# EAGLE library part NCP45520 (library NCP45520)
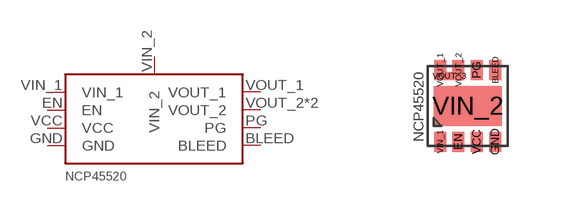
[diagram p0: symbol with the pads of DFN-8; footprint DFN-8]

Designator prefix -

## NCP45520  [DFN-8]
BLEED  BLEED
EN  EN
GND  GND
PG  PG
VCC  VCC
VIN_1  VIN_1
VIN_2  VIN_2
VOUT_1  VOUT_1
VOUT_2  VOUT_2
VOUT_3  VOUT_2

## Footprint DFN-8 (pad centres in mm)
smd 0.3 x 0.5: BLEED 0.69,0.9; EN -0.23,-0.9; GND 0.69,-0.9; PG 0.23,0.9; VCC 0.23,-0.9; VIN_1 -0.69,-0.9; VOUT_1 -0.69,0.9; VOUT_2 -0.23,0.9
smd 1.7 x 1: VIN_2 0,0
smd 0.25 x 0.2: VOUT_3 -0.46,0.75